# Altium schematic symbol library WCAP-ATG8.SchLib: 195 symbols (part 2 of 4)
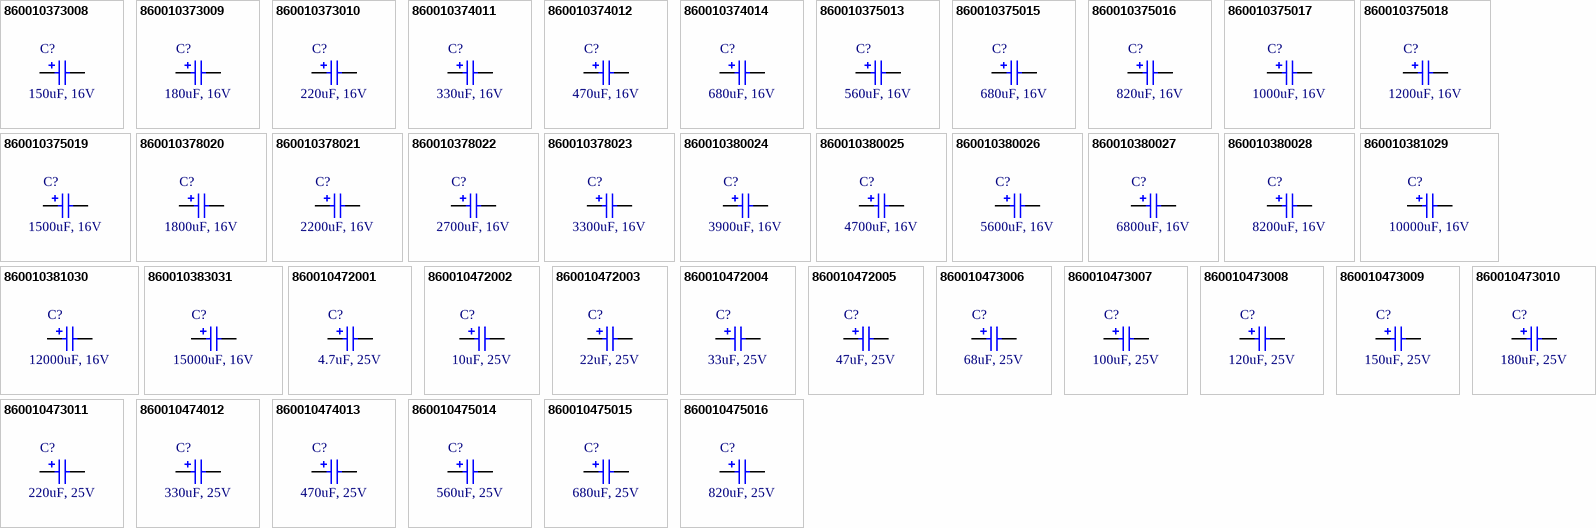
[diagram p5: symbols 860010373008 to 860010475016]

## 860010381029
designator C?, comment 10000uF, 16V
WCAP-ATG8 Aluminum Electrolytic Capacitor, Radial, THT, D18xH35.5, 10000uF, 16V; Manufacturer Part Number: 860010381029; Manufacturer: Wurth Elektronik; Ripple Current: 2970mA; Rated Voltage: 16VDC; Technical Reference: ATBL355103M016DSPAEB000; Leakage Current: 1600uA; Endurance: 2000h; Dissipation Factor: 16%; Capacitance Tolerance: +/-20%; ComponentLink2Description: Datasheet; Published Date: October 2020; Packaging: Ammo Pack; Operating Temperature: -40 to +85degC; Mounting Technology: THT; Height: 35.5mm; Diameter: 18mm; ComponentLink2URL: https://www.we-online.com/catalog/datasheet/860010381029.pdf; ComponentLink1URL: http://www.we-online.de; ComponentLink1Description: Manufacturer; Capacitance: 10000uF
footprint WCAP-ATG8_D18H35.5
pins: 1 P, 2 N

## 860010381030
designator C?, comment 12000uF, 16V
WCAP-ATG8 Aluminum Electrolytic Capacitor, Radial, THT, D18xH35.5, 12000uF, 16V; Manufacturer Part Number: 860010381030; Manufacturer: Wurth Elektronik; Ripple Current: 3058mA; Rated Voltage: 16VDC; Technical Reference: ATBL355123M016DSPAEB000; Leakage Current: 1920uA; Endurance: 2000h; Dissipation Factor: 16%; Capacitance Tolerance: +/-20%; ComponentLink2Description: Datasheet; Published Date: October 2020; Packaging: Ammo Pack; Operating Temperature: -40 to +85degC; Mounting Technology: THT; Height: 35.5mm; Diameter: 18mm; ComponentLink2URL: https://www.we-online.com/catalog/datasheet/860010381030.pdf; ComponentLink1URL: http://www.we-online.de; ComponentLink1Description: Manufacturer; Capacitance: 12000uF
footprint WCAP-ATG8_D18H35.5
pins: 1 P, 2 N

## 860010383031
designator C?, comment 15000uF, 16V
WCAP-ATG8 Aluminum Electrolytic Capacitor, Radial, THT, D22xH41, 15000uF, 16V; Manufacturer Part Number: 860010383031; Manufacturer: Wurth Elektronik; Ripple Current: 3905mA; Rated Voltage: 16VDC; Technical Reference: ATBN410153M016DSPS2B000; Leakage Current: 2400uA; Endurance: 2000h; Dissipation Factor: 16%; Capacitance Tolerance: +/-20%; ComponentLink2Description: Datasheet; Published Date: October 2020; Packaging: Ammo Pack; Operating Temperature: -40 to +85degC; Mounting Technology: THT; Height: 41mm; Diameter: 22mm; ComponentLink2URL: https://www.we-online.com/catalog/datasheet/860010383031.pdf; ComponentLink1URL: http://www.we-online.de; ComponentLink1Description: Manufacturer; Capacitance: 15000uF
footprint WCAP-ATG8_D22H41
pins: 1 P, 2 N

## 860010472001
designator C?, comment 4.7uF, 25V
WCAP-ATG8 Aluminum Electrolytic Capacitor, Radial, THT, D5xH11, 4.7uF, 25V; Manufacturer Part Number: 860010472001; Manufacturer: Wurth Elektronik; Ripple Current: 34mA; Rated Voltage: 25VDC; Technical Reference: ATBC1104R7M025DSPA3B000; Leakage Current: 3uA; Endurance: 2000h; Dissipation Factor: 14%; Capacitance Tolerance: +/-20%; ComponentLink2Description: Datasheet; Published Date: October 2020; Packaging: Ammo Pack; Operating Temperature: -40 to +85degC; Mounting Technology: THT; Height: 11mm; Diameter: 5mm; ComponentLink2URL: https://www.we-online.com/catalog/datasheet/860010472001.pdf; ComponentLink1URL: http://www.we-online.de; ComponentLink1Description: Manufacturer; Capacitance: 4.7uF
footprint WCAP-ATG8_D5H11
pins: 1 P, 2 N

## 860010472002
designator C?, comment 10uF, 25V
WCAP-ATG8 Aluminum Electrolytic Capacitor, Radial, THT, D5xH11, 10uF, 25V; Manufacturer Part Number: 860010472002; Manufacturer: Wurth Elektronik; Ripple Current: 50mA; Rated Voltage: 25VDC; Technical Reference: ATBC110100M025DSPA3B000; Leakage Current: 3uA; Endurance: 2000h; Dissipation Factor: 14%; Capacitance Tolerance: +/-20%; ComponentLink2Description: Datasheet; Published Date: October 2020; Packaging: Ammo Pack; Operating Temperature: -40 to +85degC; Mounting Technology: THT; Height: 11mm; Diameter: 5mm; ComponentLink2URL: https://www.we-online.com/catalog/datasheet/860010472002.pdf; ComponentLink1URL: http://www.we-online.de; ComponentLink1Description: Manufacturer; Capacitance: 10uF
footprint WCAP-ATG8_D5H11
pins: 1 P, 2 N

## 860010472003
designator C?, comment 22uF, 25V
WCAP-ATG8 Aluminum Electrolytic Capacitor, Radial, THT, D5xH11, 22uF, 25V; Manufacturer Part Number: 860010472003; Manufacturer: Wurth Elektronik; Ripple Current: 94mA; Rated Voltage: 25VDC; Technical Reference: ATBC110220M025DSPA3B000; Leakage Current: 5.5uA; Endurance: 2000h; Dissipation Factor: 14%; Capacitance Tolerance: +/-20%; ComponentLink2Description: Datasheet; Published Date: October 2020; Packaging: Ammo Pack; Operating Temperature: -40 to +85degC; Mounting Technology: THT; Height: 11mm; Diameter: 5mm; ComponentLink2URL: https://www.we-online.com/catalog/datasheet/860010472003.pdf; ComponentLink1URL: http://www.we-online.de; ComponentLink1Description: Manufacturer; Capacitance: 22uF
footprint WCAP-ATG8_D5H11
pins: 1 P, 2 N

## 860010472004
designator C?, comment 33uF, 25V
WCAP-ATG8 Aluminum Electrolytic Capacitor, Radial, THT, D5xH11, 33uF, 25V; Manufacturer Part Number: 860010472004; Manufacturer: Wurth Elektronik; Ripple Current: 105mA; Rated Voltage: 25VDC; Technical Reference: ATBC110330M025DSPA3B000; Leakage Current: 8.25uA; Endurance: 2000h; Dissipation Factor: 14%; Capacitance Tolerance: +/-20%; ComponentLink2Description: Datasheet; Published Date: October 2020; Packaging: Ammo Pack; Operating Temperature: -40 to +85degC; Mounting Technology: THT; Height: 11mm; Diameter: 5mm; ComponentLink2URL: https://www.we-online.com/catalog/datasheet/860010472004.pdf; ComponentLink1URL: http://www.we-online.de; ComponentLink1Description: Manufacturer; Capacitance: 33uF
footprint WCAP-ATG8_D5H11
pins: 1 P, 2 N

## 860010472005
designator C?, comment 47uF, 25V
WCAP-ATG8 Aluminum Electrolytic Capacitor, Radial, THT, D5xH11, 47uF, 25V; Manufacturer Part Number: 860010472005; Manufacturer: Wurth Elektronik; Ripple Current: 132mA; Rated Voltage: 25VDC; Technical Reference: ATBC110470M025DSPA3B000; Leakage Current: 11.75uA; Endurance: 2000h; Dissipation Factor: 14%; Capacitance Tolerance: +/-20%; ComponentLink2Description: Datasheet; Published Date: October 2020; Packaging: Ammo Pack; Operating Temperature: -40 to +85degC; Mounting Technology: THT; Height: 11mm; Diameter: 5mm; ComponentLink2URL: https://www.we-online.com/catalog/datasheet/860010472005.pdf; ComponentLink1URL: http://www.we-online.de; ComponentLink1Description: Manufacturer; Capacitance: 47uF
footprint WCAP-ATG8_D5H11
pins: 1 P, 2 N

## 860010473006
designator C?, comment 68uF, 25V
WCAP-ATG8 Aluminum Electrolytic Capacitor, Radial, THT, D6.3xH11, 68uF, 25V; Manufacturer Part Number: 860010473006; Manufacturer: Wurth Elektronik; Ripple Current: 176mA; Rated Voltage: 25VDC; Technical Reference: ATBD110680M025DSPA4B000; Leakage Current: 17uA; Endurance: 2000h; Dissipation Factor: 14%; Capacitance Tolerance: +/-20%; ComponentLink2Description: Datasheet; Published Date: October 2020; Packaging: Ammo Pack; Operating Temperature: -40 to +85degC; Mounting Technology: THT; Height: 11mm; Diameter: 6.3mm; ComponentLink2URL: https://www.we-online.com/catalog/datasheet/860010473006.pdf; ComponentLink1URL: http://www.we-online.de; ComponentLink1Description: Manufacturer; Capacitance: 68uF
footprint WCAP-ATG8_D6.3H11
pins: 1 P, 2 N

## 860010473007
designator C?, comment 100uF, 25V
WCAP-ATG8 Aluminum Electrolytic Capacitor, Radial, THT, D6.3xH11, 100uF, 25V; Manufacturer Part Number: 860010473007; Manufacturer: Wurth Elektronik; Ripple Current: 209mA; Rated Voltage: 25VDC; Technical Reference: ATBD110101M025DSPA4B000; Leakage Current: 25uA; Endurance: 2000h; Dissipation Factor: 14%; Capacitance Tolerance: +/-20%; ComponentLink2Description: Datasheet; Published Date: October 2020; Packaging: Ammo Pack; Operating Temperature: -40 to +85degC; Mounting Technology: THT; Height: 11mm; Diameter: 6.3mm; ComponentLink2URL: https://www.we-online.com/catalog/datasheet/860010473007.pdf; ComponentLink1URL: http://www.we-online.de; ComponentLink1Description: Manufacturer; Capacitance: 100uF
footprint WCAP-ATG8_D6.3H11
pins: 1 P, 2 N

## 860010473008
designator C?, comment 120uF, 25V
WCAP-ATG8 Aluminum Electrolytic Capacitor, Radial, THT, D6.3xH11, 120uF, 25V; Manufacturer Part Number: 860010473008; Manufacturer: Wurth Elektronik; Ripple Current: 253mA; Rated Voltage: 25VDC; Technical Reference: ATBD110121M025DSPA4B000; Leakage Current: 30uA; Endurance: 2000h; Dissipation Factor: 14%; Capacitance Tolerance: +/-20%; ComponentLink2Description: Datasheet; Published Date: October 2020; Packaging: Ammo Pack; Operating Temperature: -40 to +85degC; Mounting Technology: THT; Height: 11mm; Diameter: 6.3mm; ComponentLink2URL: https://www.we-online.com/catalog/datasheet/860010473008.pdf; ComponentLink1URL: http://www.we-online.de; ComponentLink1Description: Manufacturer; Capacitance: 120uF
footprint WCAP-ATG8_D6.3H11
pins: 1 P, 2 N

## 860010473009
designator C?, comment 150uF, 25V
WCAP-ATG8 Aluminum Electrolytic Capacitor, Radial, THT, D6.3xH11, 150uF, 25V; Manufacturer Part Number: 860010473009; Manufacturer: Wurth Elektronik; Ripple Current: 275mA; Rated Voltage: 25VDC; Technical Reference: ATBD110151M025DSPA4B000; Leakage Current: 37.5uA; Endurance: 2000h; Dissipation Factor: 14%; Capacitance Tolerance: +/-20%; ComponentLink2Description: Datasheet; Published Date: October 2020; Packaging: Ammo Pack; Operating Temperature: -40 to +85degC; Mounting Technology: THT; Height: 11mm; Diameter: 6.3mm; ComponentLink2URL: https://www.we-online.com/catalog/datasheet/860010473009.pdf; ComponentLink1URL: http://www.we-online.de; ComponentLink1Description: Manufacturer; Capacitance: 150uF
footprint WCAP-ATG8_D6.3H11
pins: 1 P, 2 N

## 860010473010
designator C?, comment 180uF, 25V
WCAP-ATG8 Aluminum Electrolytic Capacitor, Radial, THT, D6.3xH11, 180uF, 25V; Manufacturer Part Number: 860010473010; Manufacturer: Wurth Elektronik; Ripple Current: 280mA; Rated Voltage: 25VDC; Technical Reference: ATBD110181M025DSPA4B000; Leakage Current: 45uA; Endurance: 2000h; Dissipation Factor: 14%; Capacitance Tolerance: +/-20%; ComponentLink2Description: Datasheet; Published Date: October 2020; Packaging: Ammo Pack; Operating Temperature: -40 to +85degC; Mounting Technology: THT; Height: 11mm; Diameter: 6.3mm; ComponentLink2URL: https://www.we-online.com/catalog/datasheet/860010473010.pdf; ComponentLink1URL: http://www.we-online.de; ComponentLink1Description: Manufacturer; Capacitance: 180uF
footprint WCAP-ATG8_D6.3H11
pins: 1 P, 2 N

## 860010473011
designator C?, comment 220uF, 25V
WCAP-ATG8 Aluminum Electrolytic Capacitor, Radial, THT, D6.3xH11, 220uF, 25V; Manufacturer Part Number: 860010473011; Manufacturer: Wurth Elektronik; Ripple Current: 310mA; Rated Voltage: 25VDC; Technical Reference: ATBD110221M025DSPA4B000; Leakage Current: 55uA; Endurance: 2000h; Dissipation Factor: 14%; Capacitance Tolerance: +/-20%; ComponentLink2Description: Datasheet; Published Date: October 2020; Packaging: Ammo Pack; Operating Temperature: -40 to +85degC; Mounting Technology: THT; Height: 11mm; Diameter: 6.3mm; ComponentLink2URL: https://www.we-online.com/catalog/datasheet/860010473011.pdf; ComponentLink1URL: http://www.we-online.de; ComponentLink1Description: Manufacturer; Capacitance: 220uF
footprint WCAP-ATG8_D6.3H11
pins: 1 P, 2 N

## 860010474012
designator C?, comment 330uF, 25V
WCAP-ATG8 Aluminum Electrolytic Capacitor, Radial, THT, D8xH11.5, 330uF, 25V; Manufacturer Part Number: 860010474012; Manufacturer: Wurth Elektronik; Ripple Current: 451mA; Rated Voltage: 25VDC; Technical Reference: ATBE115331M025DSPA7B000; Leakage Current: 82.5uA; Endurance: 2000h; Dissipation Factor: 14%; Capacitance Tolerance: +/-20%; ComponentLink2Description: Datasheet; Published Date: October 2020; Packaging: Ammo Pack; Operating Temperature: -40 to +85degC; Mounting Technology: THT; Height: 11.5mm; Diameter: 8mm; ComponentLink2URL: https://www.we-online.com/catalog/datasheet/860010474012.pdf; ComponentLink1URL: http://www.we-online.de; ComponentLink1Description: Manufacturer; Capacitance: 330uF
footprint WCAP-ATG8_D8H11.5
pins: 1 P, 2 N

## 860010474013
designator C?, comment 470uF, 25V
WCAP-ATG8 Aluminum Electrolytic Capacitor, Radial, THT, D8xH11.5, 470uF, 25V; Manufacturer Part Number: 860010474013; Manufacturer: Wurth Elektronik; Ripple Current: 561mA; Rated Voltage: 25VDC; Technical Reference: ATBE115471M025DSPA7B000; Leakage Current: 117.5uA; Endurance: 2000h; Dissipation Factor: 14%; Capacitance Tolerance: +/-20%; ComponentLink2Description: Datasheet; Published Date: October 2020; Packaging: Ammo Pack; Operating Temperature: -40 to +85degC; Mounting Technology: THT; Height: 11.5mm; Diameter: 8mm; ComponentLink2URL: https://www.we-online.com/catalog/datasheet/860010474013.pdf; ComponentLink1URL: http://www.we-online.de; ComponentLink1Description: Manufacturer; Capacitance: 470uF
footprint WCAP-ATG8_D8H11.5
pins: 1 P, 2 N

## 860010475014
designator C?, comment 560uF, 25V
WCAP-ATG8 Aluminum Electrolytic Capacitor, Radial, THT, D10xH16, 560uF, 25V; Manufacturer Part Number: 860010475014; Manufacturer: Wurth Elektronik; Ripple Current: 693mA; Rated Voltage: 25VDC; Technical Reference: ATBF160561M025DSPAAB000; Leakage Current: 140uA; Endurance: 2000h; Dissipation Factor: 14%; Capacitance Tolerance: +/-20%; ComponentLink2Description: Datasheet; Published Date: October 2020; Packaging: Ammo Pack; Operating Temperature: -40 to +85degC; Mounting Technology: THT; Height: 16mm; Diameter: 10mm; ComponentLink2URL: https://www.we-online.com/catalog/datasheet/860010475014.pdf; ComponentLink1URL: http://www.we-online.de; ComponentLink1Description: Manufacturer; Capacitance: 560uF
footprint WCAP-ATG8_D10H16
pins: 1 P, 2 N

## 860010475015
designator C?, comment 680uF, 25V
WCAP-ATG8 Aluminum Electrolytic Capacitor, Radial, THT, D10xH16, 680uF, 25V; Manufacturer Part Number: 860010475015; Manufacturer: Wurth Elektronik; Ripple Current: 792mA; Rated Voltage: 25VDC; Technical Reference: ATBF160681M025DSPAAB000; Leakage Current: 170uA; Endurance: 2000h; Dissipation Factor: 14%; Capacitance Tolerance: +/-20%; ComponentLink2Description: Datasheet; Published Date: October 2020; Packaging: Ammo Pack; Operating Temperature: -40 to +85degC; Mounting Technology: THT; Height: 16mm; Diameter: 10mm; ComponentLink2URL: https://www.we-online.com/catalog/datasheet/860010475015.pdf; ComponentLink1URL: http://www.we-online.de; ComponentLink1Description: Manufacturer; Capacitance: 680uF
footprint WCAP-ATG8_D10H16
pins: 1 P, 2 N

## 860010475016
designator C?, comment 820uF, 25V
WCAP-ATG8 Aluminum Electrolytic Capacitor, Radial, THT, D10xH20, 820uF, 25V; Manufacturer Part Number: 860010475016; Manufacturer: Wurth Elektronik; Ripple Current: 891mA; Rated Voltage: 25VDC; Technical Reference: ATBF200821M025DSPAAB000; Leakage Current: 205uA; Endurance: 2000h; Dissipation Factor: 14%; Capacitance Tolerance: +/-20%; ComponentLink2Description: Datasheet; Published Date: October 2020; Packaging: Ammo Pack; Operating Temperature: -40 to +85degC; Mounting Technology: THT; Height: 20mm; Diameter: 10mm; ComponentLink2URL: https://www.we-online.com/catalog/datasheet/860010475016.pdf; ComponentLink1URL: http://www.we-online.de; ComponentLink1Description: Manufacturer; Capacitance: 820uF
footprint WCAP-ATG8_D10H20
pins: 1 P, 2 N

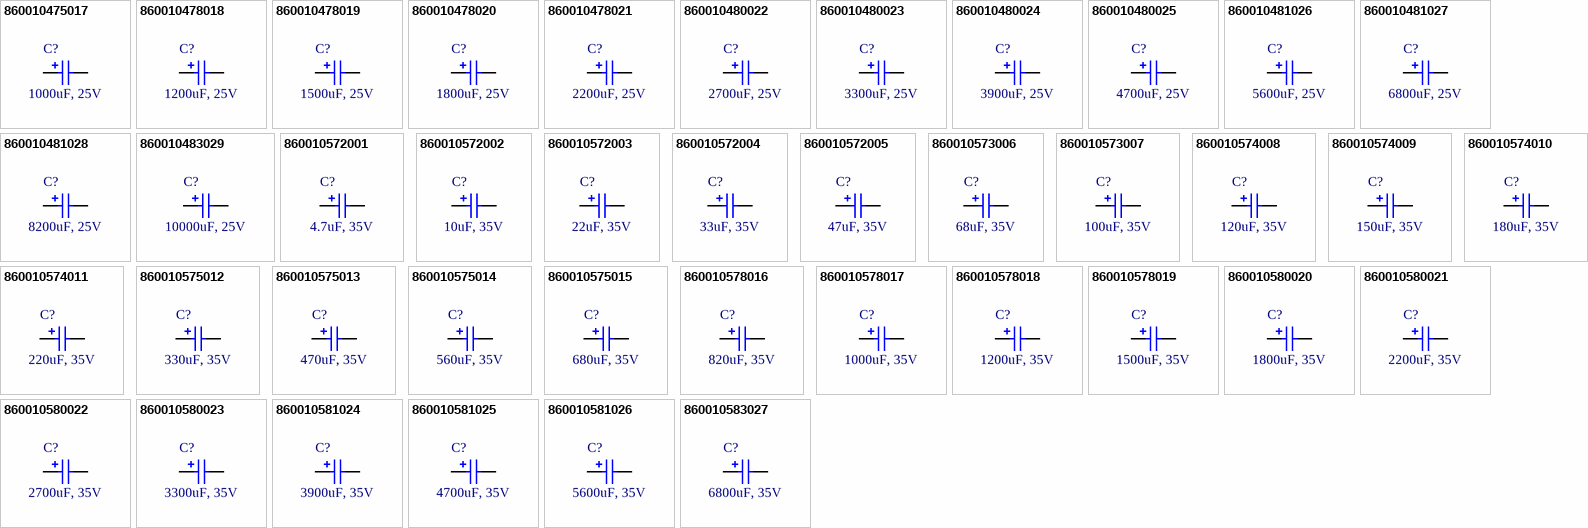
[diagram p2: symbols 860010475017 to 860010583027]

## 860010475017
designator C?, comment 1000uF, 25V
WCAP-ATG8 Aluminum Electrolytic Capacitor, Radial, THT, D10xH20, 1000uF, 25V; Manufacturer Part Number: 860010475017; Manufacturer: Wurth Elektronik; Ripple Current: 1050mA; Rated Voltage: 25VDC; Technical Reference: ATBF200102M025DSPAAB000; Leakage Current: 250uA; Endurance: 2000h; Dissipation Factor: 14%; Capacitance Tolerance: +/-20%; ComponentLink2Description: Datasheet; Published Date: October 2020; Packaging: Ammo Pack; Operating Temperature: -40 to +85degC; Mounting Technology: THT; Height: 20mm; Diameter: 10mm; ComponentLink2URL: https://www.we-online.com/catalog/datasheet/860010475017.pdf; ComponentLink1URL: http://www.we-online.de; ComponentLink1Description: Manufacturer; Capacitance: 1000uF
footprint WCAP-ATG8_D10H20
pins: 1 P, 2 N

## 860010478018
designator C?, comment 1200uF, 25V
WCAP-ATG8 Aluminum Electrolytic Capacitor, Radial, THT, D13xH20, 1200uF, 25V; Manufacturer Part Number: 860010478018; Manufacturer: Wurth Elektronik; Ripple Current: 1155mA; Rated Voltage: 25VDC; Technical Reference: ATBI200122M025DSPACB000; Leakage Current: 300uA; Endurance: 2000h; Dissipation Factor: 14%; Capacitance Tolerance: +/-20%; ComponentLink2Description: Datasheet; Published Date: October 2020; Packaging: Ammo Pack; Operating Temperature: -40 to +85degC; Mounting Technology: THT; Height: 20mm; Diameter: 13mm; ComponentLink2URL: https://www.we-online.com/catalog/datasheet/860010478018.pdf; ComponentLink1URL: http://www.we-online.de; ComponentLink1Description: Manufacturer; Capacitance: 1200uF
footprint WCAP-ATG8_D13H20
pins: 1 P, 2 N

## 860010478019
designator C?, comment 1500uF, 25V
WCAP-ATG8 Aluminum Electrolytic Capacitor, Radial, THT, D13xH20, 1500uF, 25V; Manufacturer Part Number: 860010478019; Manufacturer: Wurth Elektronik; Ripple Current: 1353mA; Rated Voltage: 25VDC; Technical Reference: ATBI200152M025DSPACB000; Leakage Current: 375uA; Endurance: 2000h; Dissipation Factor: 14%; Capacitance Tolerance: +/-20%; ComponentLink2Description: Datasheet; Published Date: October 2020; Packaging: Ammo Pack; Operating Temperature: -40 to +85degC; Mounting Technology: THT; Height: 20mm; Diameter: 13mm; ComponentLink2URL: https://www.we-online.com/catalog/datasheet/860010478019.pdf; ComponentLink1URL: http://www.we-online.de; ComponentLink1Description: Manufacturer; Capacitance: 1500uF
footprint WCAP-ATG8_D13H20
pins: 1 P, 2 N

## 860010478020
designator C?, comment 1800uF, 25V
WCAP-ATG8 Aluminum Electrolytic Capacitor, Radial, THT, D13xH20, 1800uF, 25V; Manufacturer Part Number: 860010478020; Manufacturer: Wurth Elektronik; Ripple Current: 1496mA; Rated Voltage: 25VDC; Technical Reference: ATBI200182M025DSPACB000; Leakage Current: 450uA; Endurance: 2000h; Dissipation Factor: 14%; Capacitance Tolerance: +/-20%; ComponentLink2Description: Datasheet; Published Date: October 2020; Packaging: Ammo Pack; Operating Temperature: -40 to +85degC; Mounting Technology: THT; Height: 20mm; Diameter: 13mm; ComponentLink2URL: https://www.we-online.com/catalog/datasheet/860010478020.pdf; ComponentLink1URL: http://www.we-online.de; ComponentLink1Description: Manufacturer; Capacitance: 1800uF
footprint WCAP-ATG8_D13H20
pins: 1 P, 2 N

## 860010478021
designator C?, comment 2200uF, 25V
WCAP-ATG8 Aluminum Electrolytic Capacitor, Radial, THT, D13xH25, 2200uF, 25V; Manufacturer Part Number: 860010478021; Manufacturer: Wurth Elektronik; Ripple Current: 1705mA; Rated Voltage: 25VDC; Technical Reference: ATBI250222M025DSPACB000; Leakage Current: 550uA; Endurance: 2000h; Dissipation Factor: 14%; Capacitance Tolerance: +/-20%; ComponentLink2Description: Datasheet; Published Date: October 2020; Packaging: Ammo Pack; Operating Temperature: -40 to +85degC; Mounting Technology: THT; Height: 25mm; Diameter: 13mm; ComponentLink2URL: https://www.we-online.com/catalog/datasheet/860010478021.pdf; ComponentLink1URL: http://www.we-online.de; ComponentLink1Description: Manufacturer; Capacitance: 2200uF
footprint WCAP-ATG8_D13H25
pins: 1 P, 2 N

## 860010480022
designator C?, comment 2700uF, 25V
WCAP-ATG8 Aluminum Electrolytic Capacitor, Radial, THT, D16xH25, 2700uF, 25V; Manufacturer Part Number: 860010480022; Manufacturer: Wurth Elektronik; Ripple Current: 1804mA; Rated Voltage: 25VDC; Technical Reference: ATBK250272M025DSPAEB000; Leakage Current: 675uA; Endurance: 2000h; Dissipation Factor: 14%; Capacitance Tolerance: +/-20%; ComponentLink2Description: Datasheet; Published Date: October 2020; Packaging: Ammo Pack; Operating Temperature: -40 to +85degC; Mounting Technology: THT; Height: 25mm; Diameter: 16mm; ComponentLink2URL: https://www.we-online.com/catalog/datasheet/860010480022.pdf; ComponentLink1URL: http://www.we-online.de; ComponentLink1Description: Manufacturer; Capacitance: 2700uF
footprint WCAP-ATG8_D16H25
pins: 1 P, 2 N

## 860010480023
designator C?, comment 3300uF, 25V
WCAP-ATG8 Aluminum Electrolytic Capacitor, Radial, THT, D16xH25, 3300uF, 25V; Manufacturer Part Number: 860010480023; Manufacturer: Wurth Elektronik; Ripple Current: 1870mA; Rated Voltage: 25VDC; Technical Reference: ATBK250332M025DSPAEB000; Leakage Current: 825uA; Endurance: 2000h; Dissipation Factor: 14%; Capacitance Tolerance: +/-20%; ComponentLink2Description: Datasheet; Published Date: October 2020; Packaging: Ammo Pack; Operating Temperature: -40 to +85degC; Mounting Technology: THT; Height: 25mm; Diameter: 16mm; ComponentLink2URL: https://www.we-online.com/catalog/datasheet/860010480023.pdf; ComponentLink1URL: http://www.we-online.de; ComponentLink1Description: Manufacturer; Capacitance: 3300uF
footprint WCAP-ATG8_D16H25
pins: 1 P, 2 N

## 860010480024
designator C?, comment 3900uF, 25V
WCAP-ATG8 Aluminum Electrolytic Capacitor, Radial, THT, D16xH31.5, 3900uF, 25V; Manufacturer Part Number: 860010480024; Manufacturer: Wurth Elektronik; Ripple Current: 2343mA; Rated Voltage: 25VDC; Technical Reference: ATBK315392M025DSPADB000; Leakage Current: 975uA; Endurance: 2000h; Dissipation Factor: 14%; Capacitance Tolerance: +/-20%; ComponentLink2Description: Datasheet; Published Date: October 2020; Packaging: Ammo Pack; Operating Temperature: -40 to +85degC; Mounting Technology: THT; Height: 31.5mm; Diameter: 16mm; ComponentLink2URL: https://www.we-online.com/catalog/datasheet/860010480024.pdf; ComponentLink1URL: http://www.we-online.de; ComponentLink1Description: Manufacturer; Capacitance: 3900uF
footprint WCAP-ATG8_D16H31.5
pins: 1 P, 2 N

## 860010480025
designator C?, comment 4700uF, 25V
WCAP-ATG8 Aluminum Electrolytic Capacitor, Radial, THT, D16xH31.5, 4700uF, 25V; Manufacturer Part Number: 860010480025; Manufacturer: Wurth Elektronik; Ripple Current: 2640mA; Rated Voltage: 25VDC; Technical Reference: ATBK315472M025DSPADB000; Leakage Current: 1175uA; Endurance: 2000h; Dissipation Factor: 14%; Capacitance Tolerance: +/-20%; ComponentLink2Description: Datasheet; Published Date: October 2020; Packaging: Ammo Pack; Operating Temperature: -40 to +85degC; Mounting Technology: THT; Height: 31.5mm; Diameter: 16mm; ComponentLink2URL: https://www.we-online.com/catalog/datasheet/860010480025.pdf; ComponentLink1URL: http://www.we-online.de; ComponentLink1Description: Manufacturer; Capacitance: 4700uF
footprint WCAP-ATG8_D16H31.5
pins: 1 P, 2 N

## 860010481026
designator C?, comment 5600uF, 25V
WCAP-ATG8 Aluminum Electrolytic Capacitor, Radial, THT, D18xH31.5, 5600uF, 25V; Manufacturer Part Number: 860010481026; Manufacturer: Wurth Elektronik; Ripple Current: 2816mA; Rated Voltage: 25VDC; Technical Reference: ATBL315562M025DSPAEB000; Leakage Current: 1400uA; Endurance: 2000h; Dissipation Factor: 14%; Capacitance Tolerance: +/-20%; ComponentLink2Description: Datasheet; Published Date: October 2020; Packaging: Ammo Pack; Operating Temperature: -40 to +85degC; Mounting Technology: THT; Height: 31.5mm; Diameter: 18mm; ComponentLink2URL: https://www.we-online.com/catalog/datasheet/860010481026.pdf; ComponentLink1URL: http://www.we-online.de; ComponentLink1Description: Manufacturer; Capacitance: 5600uF
footprint WCAP-ATG8_D18H31.5
pins: 1 P, 2 N

## 860010481027
designator C?, comment 6800uF, 25V
WCAP-ATG8 Aluminum Electrolytic Capacitor, Radial, THT, D18xH35.5, 6800uF, 25V; Manufacturer Part Number: 860010481027; Manufacturer: Wurth Elektronik; Ripple Current: 2970mA; Rated Voltage: 25VDC; Technical Reference: ATBL355682M025DSPAEB000; Leakage Current: 1700uA; Endurance: 2000h; Dissipation Factor: 14%; Capacitance Tolerance: +/-20%; ComponentLink2Description: Datasheet; Published Date: October 2020; Packaging: Ammo Pack; Operating Temperature: -40 to +85degC; Mounting Technology: THT; Height: 35.5mm; Diameter: 18mm; ComponentLink2URL: https://www.we-online.com/catalog/datasheet/860010481027.pdf; ComponentLink1URL: http://www.we-online.de; ComponentLink1Description: Manufacturer; Capacitance: 6800uF
footprint WCAP-ATG8_D18H35.5
pins: 1 P, 2 N

## 860010481028
designator C?, comment 8200uF, 25V
WCAP-ATG8 Aluminum Electrolytic Capacitor, Radial, THT, D18xH35.5, 8200uF, 25V; Manufacturer Part Number: 860010481028; Manufacturer: Wurth Elektronik; Ripple Current: 2981mA; Rated Voltage: 25VDC; Technical Reference: ATBL355822M025DSPAEB000; Leakage Current: 2050uA; Endurance: 2000h; Dissipation Factor: 14%; Capacitance Tolerance: +/-20%; ComponentLink2Description: Datasheet; Published Date: October 2020; Packaging: Ammo Pack; Operating Temperature: -40 to +85degC; Mounting Technology: THT; Height: 35.5mm; Diameter: 18mm; ComponentLink2URL: https://www.we-online.com/catalog/datasheet/860010481028.pdf; ComponentLink1URL: http://www.we-online.de; ComponentLink1Description: Manufacturer; Capacitance: 8200uF
footprint WCAP-ATG8_D18H35.5
pins: 1 P, 2 N

## 860010483029
designator C?, comment 10000uF, 25V
WCAP-ATG8 Aluminum Electrolytic Capacitor, Radial, THT, D22xH41, 10000uF, 25V; Manufacturer Part Number: 860010483029; Manufacturer: Wurth Elektronik; Ripple Current: 3960mA; Rated Voltage: 25VDC; Technical Reference: ATBN410103M025DSPS2B000; Leakage Current: 2500uA; Endurance: 2000h; Dissipation Factor: 14%; Capacitance Tolerance: +/-20%; ComponentLink2Description: Datasheet; Published Date: October 2020; Packaging: Ammo Pack; Operating Temperature: -40 to +85degC; Mounting Technology: THT; Height: 41mm; Diameter: 22mm; ComponentLink2URL: https://www.we-online.com/catalog/datasheet/860010483029.pdf; ComponentLink1URL: http://www.we-online.de; ComponentLink1Description: Manufacturer; Capacitance: 10000uF
footprint WCAP-ATG8_D22H41
pins: 1 P, 2 N

## 860010572001
designator C?, comment 4.7uF, 35V
WCAP-ATG8 Aluminum Electrolytic Capacitor, Radial, THT, D5xH11, 4.7uF, 35V; Manufacturer Part Number: 860010572001; Manufacturer: Wurth Elektronik; Ripple Current: 44mA; Rated Voltage: 35VDC; Technical Reference: ATBC1104R7M035DSPA3B000; Leakage Current: 3uA; Endurance: 2000h; Dissipation Factor: 12%; Capacitance Tolerance: +/-20%; ComponentLink2Description: Datasheet; Published Date: October 2020; Packaging: Ammo Pack; Operating Temperature: -40 to +85degC; Mounting Technology: THT; Height: 11mm; Diameter: 5mm; ComponentLink2URL: https://www.we-online.com/catalog/datasheet/860010572001.pdf; ComponentLink1URL: http://www.we-online.de; ComponentLink1Description: Manufacturer; Capacitance: 4.7uF
footprint WCAP-ATG8_D5H11
pins: 1 P, 2 N

## 860010572002
designator C?, comment 10uF, 35V
WCAP-ATG8 Aluminum Electrolytic Capacitor, Radial, THT, D5xH11, 10uF, 35V; Manufacturer Part Number: 860010572002; Manufacturer: Wurth Elektronik; Ripple Current: 66mA; Rated Voltage: 35VDC; Technical Reference: ATBC110100M035DSPA3B000; Leakage Current: 3.5uA; Endurance: 2000h; Dissipation Factor: 12%; Capacitance Tolerance: +/-20%; ComponentLink2Description: Datasheet; Published Date: October 2020; Packaging: Ammo Pack; Operating Temperature: -40 to +85degC; Mounting Technology: THT; Height: 11mm; Diameter: 5mm; ComponentLink2URL: https://www.we-online.com/catalog/datasheet/860010572002.pdf; ComponentLink1URL: http://www.we-online.de; ComponentLink1Description: Manufacturer; Capacitance: 10uF
footprint WCAP-ATG8_D5H11
pins: 1 P, 2 N

## 860010572003
designator C?, comment 22uF, 35V
WCAP-ATG8 Aluminum Electrolytic Capacitor, Radial, THT, D5xH11, 22uF, 35V; Manufacturer Part Number: 860010572003; Manufacturer: Wurth Elektronik; Ripple Current: 108mA; Rated Voltage: 35VDC; Technical Reference: ATBC110220M035DSPA3B000; Leakage Current: 7.7uA; Endurance: 2000h; Dissipation Factor: 12%; Capacitance Tolerance: +/-20%; ComponentLink2Description: Datasheet; Published Date: October 2020; Packaging: Ammo Pack; Operating Temperature: -40 to +85degC; Mounting Technology: THT; Height: 11mm; Diameter: 5mm; ComponentLink2URL: https://www.we-online.com/catalog/datasheet/860010572003.pdf; ComponentLink1URL: http://www.we-online.de; ComponentLink1Description: Manufacturer; Capacitance: 22uF
footprint WCAP-ATG8_D5H11
pins: 1 P, 2 N

## 860010572004
designator C?, comment 33uF, 35V
WCAP-ATG8 Aluminum Electrolytic Capacitor, Radial, THT, D5xH11, 33uF, 35V; Manufacturer Part Number: 860010572004; Manufacturer: Wurth Elektronik; Ripple Current: 121mA; Rated Voltage: 35VDC; Technical Reference: ATBC110330M035DSPA3B000; Leakage Current: 11.55uA; Endurance: 2000h; Dissipation Factor: 12%; Capacitance Tolerance: +/-20%; ComponentLink2Description: Datasheet; Published Date: October 2020; Packaging: Ammo Pack; Operating Temperature: -40 to +85degC; Mounting Technology: THT; Height: 11mm; Diameter: 5mm; ComponentLink2URL: https://www.we-online.com/catalog/datasheet/860010572004.pdf; ComponentLink1URL: http://www.we-online.de; ComponentLink1Description: Manufacturer; Capacitance: 33uF
footprint WCAP-ATG8_D5H11
pins: 1 P, 2 N

## 860010572005
designator C?, comment 47uF, 35V
WCAP-ATG8 Aluminum Electrolytic Capacitor, Radial, THT, D5xH11, 47uF, 35V; Manufacturer Part Number: 860010572005; Manufacturer: Wurth Elektronik; Ripple Current: 143mA; Rated Voltage: 35VDC; Technical Reference: ATBC110470M035DSPA3B000; Leakage Current: 16.45uA; Endurance: 2000h; Dissipation Factor: 12%; Capacitance Tolerance: +/-20%; ComponentLink2Description: Datasheet; Published Date: October 2020; Packaging: Ammo Pack; Operating Temperature: -40 to +85degC; Mounting Technology: THT; Height: 11mm; Diameter: 5mm; ComponentLink2URL: https://www.we-online.com/catalog/datasheet/860010572005.pdf; ComponentLink1URL: http://www.we-online.de; ComponentLink1Description: Manufacturer; Capacitance: 47uF
footprint WCAP-ATG8_D5H11
pins: 1 P, 2 N

## 860010573006
designator C?, comment 68uF, 35V
WCAP-ATG8 Aluminum Electrolytic Capacitor, Radial, THT, D6.3xH11, 68uF, 35V; Manufacturer Part Number: 860010573006; Manufacturer: Wurth Elektronik; Ripple Current: 198mA; Rated Voltage: 35VDC; Technical Reference: ATBD110680M035DSPA4B000; Leakage Current: 23.8uA; Endurance: 2000h; Dissipation Factor: 12%; Capacitance Tolerance: +/-20%; ComponentLink2Description: Datasheet; Published Date: October 2020; Packaging: Ammo Pack; Operating Temperature: -40 to +85degC; Mounting Technology: THT; Height: 11mm; Diameter: 6.3mm; ComponentLink2URL: https://www.we-online.com/catalog/datasheet/860010573006.pdf; ComponentLink1URL: http://www.we-online.de; ComponentLink1Description: Manufacturer; Capacitance: 68uF
footprint WCAP-ATG8_D6.3H11
pins: 1 P, 2 N

## 860010573007
designator C?, comment 100uF, 35V
WCAP-ATG8 Aluminum Electrolytic Capacitor, Radial, THT, D6.3xH11, 100uF, 35V; Manufacturer Part Number: 860010573007; Manufacturer: Wurth Elektronik; Ripple Current: 231mA; Rated Voltage: 35VDC; Technical Reference: ATBD110101M035DSPA4B000; Leakage Current: 35uA; Endurance: 2000h; Dissipation Factor: 12%; Capacitance Tolerance: +/-20%; ComponentLink2Description: Datasheet; Published Date: October 2020; Packaging: Ammo Pack; Operating Temperature: -40 to +85degC; Mounting Technology: THT; Height: 11mm; Diameter: 6.3mm; ComponentLink2URL: https://www.we-online.com/catalog/datasheet/860010573007.pdf; ComponentLink1URL: http://www.we-online.de; ComponentLink1Description: Manufacturer; Capacitance: 100uF
footprint WCAP-ATG8_D6.3H11
pins: 1 P, 2 N

## 860010574008
designator C?, comment 120uF, 35V
WCAP-ATG8 Aluminum Electrolytic Capacitor, Radial, THT, D8xH11.5, 120uF, 35V; Manufacturer Part Number: 860010574008; Manufacturer: Wurth Elektronik; Ripple Current: 275mA; Rated Voltage: 35VDC; Technical Reference: ATBE115121M035DSPA7B000; Leakage Current: 42uA; Endurance: 2000h; Dissipation Factor: 12%; Capacitance Tolerance: +/-20%; ComponentLink2Description: Datasheet; Published Date: October 2020; Packaging: Ammo Pack; Operating Temperature: -40 to +85degC; Mounting Technology: THT; Height: 11.5mm; Diameter: 8mm; ComponentLink2URL: https://www.we-online.com/catalog/datasheet/860010574008.pdf; ComponentLink1URL: http://www.we-online.de; ComponentLink1Description: Manufacturer; Capacitance: 120uF
footprint WCAP-ATG8_D8H11.5
pins: 1 P, 2 N

## 860010574009
designator C?, comment 150uF, 35V
WCAP-ATG8 Aluminum Electrolytic Capacitor, Radial, THT, D8xH11.5, 150uF, 35V; Manufacturer Part Number: 860010574009; Manufacturer: Wurth Elektronik; Ripple Current: 308mA; Rated Voltage: 35VDC; Technical Reference: ATBE115151M035DSPA7B000; Leakage Current: 52.5uA; Endurance: 2000h; Dissipation Factor: 12%; Capacitance Tolerance: +/-20%; ComponentLink2Description: Datasheet; Published Date: October 2020; Packaging: Ammo Pack; Operating Temperature: -40 to +85degC; Mounting Technology: THT; Height: 11.5mm; Diameter: 8mm; ComponentLink2URL: https://www.we-online.com/catalog/datasheet/860010574009.pdf; ComponentLink1URL: http://www.we-online.de; ComponentLink1Description: Manufacturer; Capacitance: 150uF
footprint WCAP-ATG8_D8H11.5
pins: 1 P, 2 N

## 860010574010
designator C?, comment 180uF, 35V
WCAP-ATG8 Aluminum Electrolytic Capacitor, Radial, THT, D8xH11.5, 180uF, 35V; Manufacturer Part Number: 860010574010; Manufacturer: Wurth Elektronik; Ripple Current: 352mA; Rated Voltage: 35VDC; Technical Reference: ATBE115181M035DSPA7B000; Leakage Current: 63uA; Endurance: 2000h; Dissipation Factor: 12%; Capacitance Tolerance: +/-20%; ComponentLink2Description: Datasheet; Published Date: October 2020; Packaging: Ammo Pack; Operating Temperature: -40 to +85degC; Mounting Technology: THT; Height: 11.5mm; Diameter: 8mm; ComponentLink2URL: https://www.we-online.com/catalog/datasheet/860010574010.pdf; ComponentLink1URL: http://www.we-online.de; ComponentLink1Description: Manufacturer; Capacitance: 180uF
footprint WCAP-ATG8_D8H11.5
pins: 1 P, 2 N

## 860010574011
designator C?, comment 220uF, 35V
WCAP-ATG8 Aluminum Electrolytic Capacitor, Radial, THT, D8xH11.5, 220uF, 35V; Manufacturer Part Number: 860010574011; Manufacturer: Wurth Elektronik; Ripple Current: 385mA; Rated Voltage: 35VDC; Technical Reference: ATBE115221M035DSPA7B000; Leakage Current: 77uA; Endurance: 2000h; Dissipation Factor: 12%; Capacitance Tolerance: +/-20%; ComponentLink2Description: Datasheet; Published Date: October 2020; Packaging: Ammo Pack; Operating Temperature: -40 to +85degC; Mounting Technology: THT; Height: 11.5mm; Diameter: 8mm; ComponentLink2URL: https://www.we-online.com/catalog/datasheet/860010574011.pdf; ComponentLink1URL: http://www.we-online.de; ComponentLink1Description: Manufacturer; Capacitance: 220uF
footprint WCAP-ATG8_D8H11.5
pins: 1 P, 2 N

## 860010575012
designator C?, comment 330uF, 35V
WCAP-ATG8 Aluminum Electrolytic Capacitor, Radial, THT, D10xH12.5, 330uF, 35V; Manufacturer Part Number: 860010575012; Manufacturer: Wurth Elektronik; Ripple Current: 528mA; Rated Voltage: 35VDC; Technical Reference: ATBF125331M035DSPA9B000; Leakage Current: 115.5uA; Endurance: 2000h; Dissipation Factor: 12%; Capacitance Tolerance: +/-20%; ComponentLink2Description: Datasheet; Published Date: October 2020; Packaging: Ammo Pack; Operating Temperature: -40 to +85degC; Mounting Technology: THT; Height: 12.5mm; Diameter: 10mm; ComponentLink2URL: https://www.we-online.com/catalog/datasheet/860010575012.pdf; ComponentLink1URL: http://www.we-online.de; ComponentLink1Description: Manufacturer; Capacitance: 330uF
footprint WCAP-ATG8_D10H12.5
pins: 1 P, 2 N

## 860010575013
designator C?, comment 470uF, 35V
WCAP-ATG8 Aluminum Electrolytic Capacitor, Radial, THT, D10xH16, 470uF, 35V; Manufacturer Part Number: 860010575013; Manufacturer: Wurth Elektronik; Ripple Current: 693mA; Rated Voltage: 35VDC; Technical Reference: ATBF160471M035DSPAAB000; Leakage Current: 164.5uA; Endurance: 2000h; Dissipation Factor: 12%; Capacitance Tolerance: +/-20%; ComponentLink2Description: Datasheet; Published Date: October 2020; Packaging: Ammo Pack; Operating Temperature: -40 to +85degC; Mounting Technology: THT; Height: 16mm; Diameter: 10mm; ComponentLink2URL: https://www.we-online.com/catalog/datasheet/860010575013.pdf; ComponentLink1URL: http://www.we-online.de; ComponentLink1Description: Manufacturer; Capacitance: 470uF
footprint WCAP-ATG8_D10H16
pins: 1 P, 2 N

## 860010575014
designator C?, comment 560uF, 35V
WCAP-ATG8 Aluminum Electrolytic Capacitor, Radial, THT, D10xH20, 560uF, 35V; Manufacturer Part Number: 860010575014; Manufacturer: Wurth Elektronik; Ripple Current: 847mA; Rated Voltage: 35VDC; Technical Reference: ATBF200561M035DSPAAB000; Leakage Current: 196uA; Endurance: 2000h; Dissipation Factor: 12%; Capacitance Tolerance: +/-20%; ComponentLink2Description: Datasheet; Published Date: October 2020; Packaging: Ammo Pack; Operating Temperature: -40 to +85degC; Mounting Technology: THT; Height: 20mm; Diameter: 10mm; ComponentLink2URL: https://www.we-online.com/catalog/datasheet/860010575014.pdf; ComponentLink1URL: http://www.we-online.de; ComponentLink1Description: Manufacturer; Capacitance: 560uF
footprint WCAP-ATG8_D10H20
pins: 1 P, 2 N

## 860010575015
designator C?, comment 680uF, 35V
WCAP-ATG8 Aluminum Electrolytic Capacitor, Radial, THT, D10xH20, 680uF, 35V; Manufacturer Part Number: 860010575015; Manufacturer: Wurth Elektronik; Ripple Current: 891mA; Rated Voltage: 35VDC; Technical Reference: ATBF200681M035DSPAAB000; Leakage Current: 238uA; Endurance: 2000h; Dissipation Factor: 12%; Capacitance Tolerance: +/-20%; ComponentLink2Description: Datasheet; Published Date: October 2020; Packaging: Ammo Pack; Operating Temperature: -40 to +85degC; Mounting Technology: THT; Height: 20mm; Diameter: 10mm; ComponentLink2URL: https://www.we-online.com/catalog/datasheet/860010575015.pdf; ComponentLink1URL: http://www.we-online.de; ComponentLink1Description: Manufacturer; Capacitance: 680uF
footprint WCAP-ATG8_D10H20
pins: 1 P, 2 N

## 860010578016
designator C?, comment 820uF, 35V
WCAP-ATG8 Aluminum Electrolytic Capacitor, Radial, THT, D13xH20, 820uF, 35V; Manufacturer Part Number: 860010578016; Manufacturer: Wurth Elektronik; Ripple Current: 1045mA; Rated Voltage: 35VDC; Technical Reference: ATBI200821M035DSPACB000; Leakage Current: 287uA; Endurance: 2000h; Dissipation Factor: 12%; Capacitance Tolerance: +/-20%; ComponentLink2Description: Datasheet; Published Date: October 2020; Packaging: Ammo Pack; Operating Temperature: -40 to +85degC; Mounting Technology: THT; Height: 20mm; Diameter: 13mm; ComponentLink2URL: https://www.we-online.com/catalog/datasheet/860010578016.pdf; ComponentLink1URL: http://www.we-online.de; ComponentLink1Description: Manufacturer; Capacitance: 820uF
footprint WCAP-ATG8_D13H20
pins: 1 P, 2 N

## 860010578017
designator C?, comment 1000uF, 35V
WCAP-ATG8 Aluminum Electrolytic Capacitor, Radial, THT, D13xH20, 1000uF, 35V; Manufacturer Part Number: 860010578017; Manufacturer: Wurth Elektronik; Ripple Current: 1265mA; Rated Voltage: 35VDC; Technical Reference: ATBI200102M035DSPACB000; Leakage Current: 350uA; Endurance: 2000h; Dissipation Factor: 12%; Capacitance Tolerance: +/-20%; ComponentLink2Description: Datasheet; Published Date: October 2020; Packaging: Ammo Pack; Operating Temperature: -40 to +85degC; Mounting Technology: THT; Height: 20mm; Diameter: 13mm; ComponentLink2URL: https://www.we-online.com/catalog/datasheet/860010578017.pdf; ComponentLink1URL: http://www.we-online.de; ComponentLink1Description: Manufacturer; Capacitance: 1000uF
footprint WCAP-ATG8_D13H20
pins: 1 P, 2 N

## 860010578018
designator C?, comment 1200uF, 35V
WCAP-ATG8 Aluminum Electrolytic Capacitor, Radial, THT, D13xH20, 1200uF, 35V; Manufacturer Part Number: 860010578018; Manufacturer: Wurth Elektronik; Ripple Current: 1375mA; Rated Voltage: 35VDC; Technical Reference: ATBI200122M035DSPACB000; Leakage Current: 420uA; Endurance: 2000h; Dissipation Factor: 12%; Capacitance Tolerance: +/-20%; ComponentLink2Description: Datasheet; Published Date: October 2020; Packaging: Ammo Pack; Operating Temperature: -40 to +85degC; Mounting Technology: THT; Height: 20mm; Diameter: 13mm; ComponentLink2URL: https://www.we-online.com/catalog/datasheet/860010578018.pdf; ComponentLink1URL: http://www.we-online.de; ComponentLink1Description: Manufacturer; Capacitance: 1200uF
footprint WCAP-ATG8_D13H20
pins: 1 P, 2 N

## 860010578019
designator C?, comment 1500uF, 35V
WCAP-ATG8 Aluminum Electrolytic Capacitor, Radial, THT, D13xH25, 1500uF, 35V; Manufacturer Part Number: 860010578019; Manufacturer: Wurth Elektronik; Ripple Current: 1570mA; Rated Voltage: 35VDC; Technical Reference: ATBI250152M035DSPACB000; Leakage Current: 525uA; Endurance: 2000h; Dissipation Factor: 12%; Capacitance Tolerance: +/-20%; ComponentLink2Description: Datasheet; Published Date: October 2020; Packaging: Ammo Pack; Operating Temperature: -40 to +85degC; Mounting Technology: THT; Height: 25mm; Diameter: 13mm; ComponentLink2URL: https://www.we-online.com/catalog/datasheet/860010578019.pdf; ComponentLink1URL: http://www.we-online.de; ComponentLink1Description: Manufacturer; Capacitance: 1500uF
footprint WCAP-ATG8_D13H25
pins: 1 P, 2 N

## 860010580020
designator C?, comment 1800uF, 35V
WCAP-ATG8 Aluminum Electrolytic Capacitor, Radial, THT, D16xH25, 1800uF, 35V; Manufacturer Part Number: 860010580020; Manufacturer: Wurth Elektronik; Ripple Current: 1749mA; Rated Voltage: 35VDC; Technical Reference: ATBK250182M035DSPAEB000; Leakage Current: 630uA; Endurance: 2000h; Dissipation Factor: 12%; Capacitance Tolerance: +/-20%; ComponentLink2Description: Datasheet; Published Date: October 2020; Packaging: Ammo Pack; Operating Temperature: -40 to +85degC; Mounting Technology: THT; Height: 25mm; Diameter: 16mm; ComponentLink2URL: https://www.we-online.com/catalog/datasheet/860010580020.pdf; ComponentLink1URL: http://www.we-online.de; ComponentLink1Description: Manufacturer; Capacitance: 1800uF
footprint WCAP-ATG8_D16H25
pins: 1 P, 2 N

## 860010580021
designator C?, comment 2200uF, 35V
WCAP-ATG8 Aluminum Electrolytic Capacitor, Radial, THT, D16xH25, 2200uF, 35V; Manufacturer Part Number: 860010580021; Manufacturer: Wurth Elektronik; Ripple Current: 1870mA; Rated Voltage: 35VDC; Technical Reference: ATBK250222M035DSPAEB000; Leakage Current: 770uA; Endurance: 2000h; Dissipation Factor: 12%; Capacitance Tolerance: +/-20%; ComponentLink2Description: Datasheet; Published Date: October 2020; Packaging: Ammo Pack; Operating Temperature: -40 to +85degC; Mounting Technology: THT; Height: 25mm; Diameter: 16mm; ComponentLink2URL: https://www.we-online.com/catalog/datasheet/860010580021.pdf; ComponentLink1URL: http://www.we-online.de; ComponentLink1Description: Manufacturer; Capacitance: 2200uF
footprint WCAP-ATG8_D16H25
pins: 1 P, 2 N

## 860010580022
designator C?, comment 2700uF, 35V
WCAP-ATG8 Aluminum Electrolytic Capacitor, Radial, THT, D16xH31.5, 2700uF, 35V; Manufacturer Part Number: 860010580022; Manufacturer: Wurth Elektronik; Ripple Current: 2178mA; Rated Voltage: 35VDC; Technical Reference: ATBK315272M035DSPADB000; Leakage Current: 945uA; Endurance: 2000h; Dissipation Factor: 12%; Capacitance Tolerance: +/-20%; ComponentLink2Description: Datasheet; Published Date: October 2020; Packaging: Ammo Pack; Operating Temperature: -40 to +85degC; Mounting Technology: THT; Height: 31.5mm; Diameter: 16mm; ComponentLink2URL: https://www.we-online.com/catalog/datasheet/860010580022.pdf; ComponentLink1URL: http://www.we-online.de; ComponentLink1Description: Manufacturer; Capacitance: 2700uF
footprint WCAP-ATG8_D16H31.5
pins: 1 P, 2 N

## 860010580023
designator C?, comment 3300uF, 35V
WCAP-ATG8 Aluminum Electrolytic Capacitor, Radial, THT, D16xH31.5, 3300uF, 35V; Manufacturer Part Number: 860010580023; Manufacturer: Wurth Elektronik; Ripple Current: 2365mA; Rated Voltage: 35VDC; Technical Reference: ATBK315332M035DSPADB000; Leakage Current: 1155uA; Endurance: 2000h; Dissipation Factor: 12%; Capacitance Tolerance: +/-20%; ComponentLink2Description: Datasheet; Published Date: October 2020; Packaging: Ammo Pack; Operating Temperature: -40 to +85degC; Mounting Technology: THT; Height: 31.5mm; Diameter: 16mm; ComponentLink2URL: https://www.we-online.com/catalog/datasheet/860010580023.pdf; ComponentLink1URL: http://www.we-online.de; ComponentLink1Description: Manufacturer; Capacitance: 3300uF
footprint WCAP-ATG8_D16H31.5
pins: 1 P, 2 N

## 860010581024
designator C?, comment 3900uF, 35V
WCAP-ATG8 Aluminum Electrolytic Capacitor, Radial, THT, D18xH31.5, 3900uF, 35V; Manufacturer Part Number: 860010581024; Manufacturer: Wurth Elektronik; Ripple Current: 2640mA; Rated Voltage: 35VDC; Technical Reference: ATBL315392M035DSPAEB000; Leakage Current: 1365uA; Endurance: 2000h; Dissipation Factor: 12%; Capacitance Tolerance: +/-20%; ComponentLink2Description: Datasheet; Published Date: October 2020; Packaging: Ammo Pack; Operating Temperature: -40 to +85degC; Mounting Technology: THT; Height: 31.5mm; Diameter: 18mm; ComponentLink2URL: https://www.we-online.com/catalog/datasheet/860010581024.pdf; ComponentLink1URL: http://www.we-online.de; ComponentLink1Description: Manufacturer; Capacitance: 3900uF
footprint WCAP-ATG8_D18H31.5
pins: 1 P, 2 N

## 860010581025
designator C?, comment 4700uF, 35V
WCAP-ATG8 Aluminum Electrolytic Capacitor, Radial, THT, D18xH35.5, 4700uF, 35V; Manufacturer Part Number: 860010581025; Manufacturer: Wurth Elektronik; Ripple Current: 2860mA; Rated Voltage: 35VDC; Technical Reference: ATBL355472M035DSPAEB000; Leakage Current: 1645uA; Endurance: 2000h; Dissipation Factor: 12%; Capacitance Tolerance: +/-20%; ComponentLink2Description: Datasheet; Published Date: October 2020; Packaging: Ammo Pack; Operating Temperature: -40 to +85degC; Mounting Technology: THT; Height: 35.5mm; Diameter: 18mm; ComponentLink2URL: https://www.we-online.com/catalog/datasheet/860010581025.pdf; ComponentLink1URL: http://www.we-online.de; ComponentLink1Description: Manufacturer; Capacitance: 4700uF
footprint WCAP-ATG8_D18H35.5
pins: 1 P, 2 N

## 860010581026
designator C?, comment 5600uF, 35V
WCAP-ATG8 Aluminum Electrolytic Capacitor, Radial, THT, D18xH41, 5600uF, 35V; Manufacturer Part Number: 860010581026; Manufacturer: Wurth Elektronik; Ripple Current: 2915mA; Rated Voltage: 35VDC; Technical Reference: ATBL410562M035DSPS1B000; Leakage Current: 1960uA; Endurance: 2000h; Dissipation Factor: 12%; Capacitance Tolerance: +/-20%; ComponentLink2Description: Datasheet; Published Date: October 2020; Packaging: Ammo Pack; Operating Temperature: -40 to +85degC; Mounting Technology: THT; Height: 41mm; Diameter: 18mm; ComponentLink2URL: https://www.we-online.com/catalog/datasheet/860010581026.pdf; ComponentLink1URL: http://www.we-online.de; ComponentLink1Description: Manufacturer; Capacitance: 5600uF
footprint WCAP-ATG8_D18H41
pins: 1 P, 2 N

## 860010583027
designator C?, comment 6800uF, 35V
WCAP-ATG8 Aluminum Electrolytic Capacitor, Radial, THT, D22xH41, 6800uF, 35V; Manufacturer Part Number: 860010583027; Manufacturer: Wurth Elektronik; Ripple Current: 3630mA; Rated Voltage: 35VDC; Technical Reference: ATBN410682M035DSPS2B000; Leakage Current: 2380uA; Endurance: 2000h; Dissipation Factor: 12%; Capacitance Tolerance: +/-20%; ComponentLink2Description: Datasheet; Published Date: October 2020; Packaging: Ammo Pack; Operating Temperature: -40 to +85degC; Mounting Technology: THT; Height: 41mm; Diameter: 22mm; ComponentLink2URL: https://www.we-online.com/catalog/datasheet/860010583027.pdf; ComponentLink1URL: http://www.we-online.de; ComponentLink1Description: Manufacturer; Capacitance: 6800uF
footprint WCAP-ATG8_D22H41
pins: 1 P, 2 N

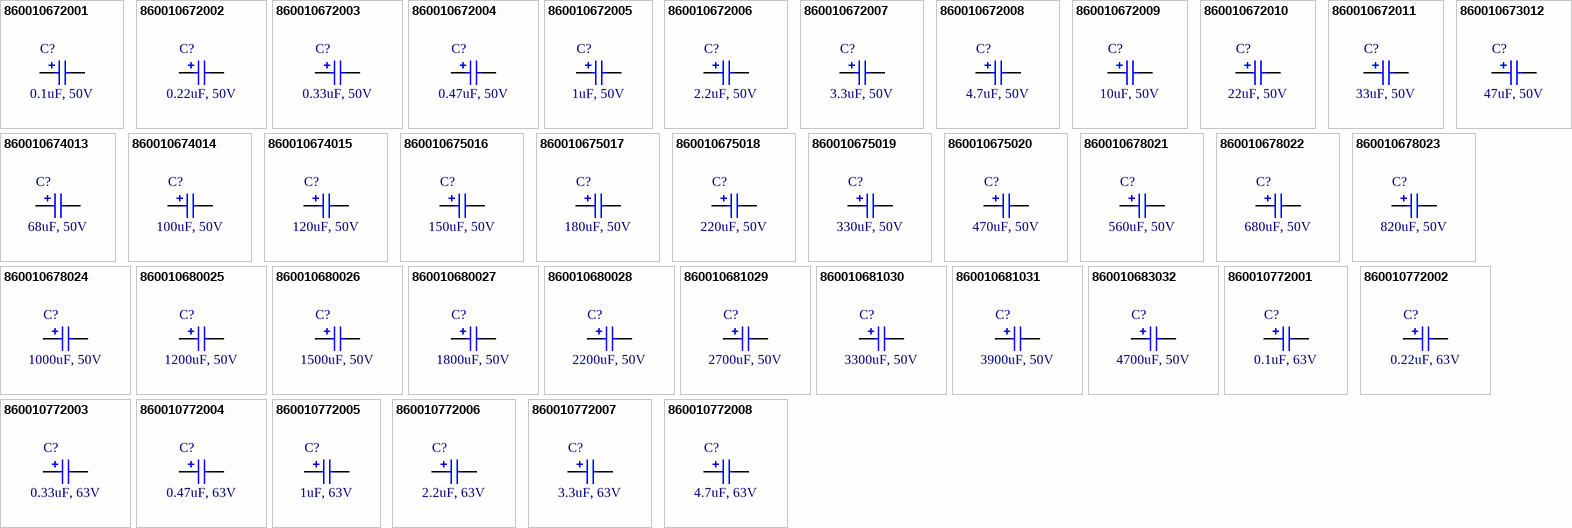
[diagram p3: symbols 860010672001 to 860010772008]

## 860010672001
designator C?, comment 0.1uF, 50V
WCAP-ATG8 Aluminum Electrolytic Capacitor, Radial, THT, D5xH11, 0.1uF, 50V; Manufacturer Part Number: 860010672001; Manufacturer: Wurth Elektronik; Ripple Current: 3.3mA; Rated Voltage: 50VDC; Technical Reference: ATBC110R10M050DSPA3B000; Leakage Current: 3uA; Endurance: 2000h; Dissipation Factor: 10%; Capacitance Tolerance: +/-20%; ComponentLink2Description: Datasheet; Published Date: October 2020; Packaging: Ammo Pack; Operating Temperature: -40 to +85degC; Mounting Technology: THT; Height: 11mm; Diameter: 5mm; ComponentLink2URL: https://www.we-online.com/catalog/datasheet/860010672001.pdf; ComponentLink1URL: http://www.we-online.de; ComponentLink1Description: Manufacturer; Capacitance: 0.1uF
footprint WCAP-ATG8_D5H11
pins: 1 P, 2 N

## 860010672002
designator C?, comment 0.22uF, 50V
WCAP-ATG8 Aluminum Electrolytic Capacitor, Radial, THT, D5xH11, 0.22uF, 50V; Manufacturer Part Number: 860010672002; Manufacturer: Wurth Elektronik; Ripple Current: 3.3mA; Rated Voltage: 50VDC; Technical Reference: ATBC110R22M050DSPA3B000; Leakage Current: 3uA; Endurance: 2000h; Dissipation Factor: 10%; Capacitance Tolerance: +/-20%; ComponentLink2Description: Datasheet; Published Date: October 2020; Packaging: Ammo Pack; Operating Temperature: -40 to +85degC; Mounting Technology: THT; Height: 11mm; Diameter: 5mm; ComponentLink2URL: https://www.we-online.com/catalog/datasheet/860010672002.pdf; ComponentLink1URL: http://www.we-online.de; ComponentLink1Description: Manufacturer; Capacitance: 0.22uF
footprint WCAP-ATG8_D5H11
pins: 1 P, 2 N

## 860010672003
designator C?, comment 0.33uF, 50V
WCAP-ATG8 Aluminum Electrolytic Capacitor, Radial, THT, D5xH11, 0.33uF, 50V; Manufacturer Part Number: 860010672003; Manufacturer: Wurth Elektronik; Ripple Current: 5.5mA; Rated Voltage: 50VDC; Technical Reference: ATBC110R33M050DSPA3B000; Leakage Current: 3uA; Endurance: 2000h; Dissipation Factor: 10%; Capacitance Tolerance: +/-20%; ComponentLink2Description: Datasheet; Published Date: October 2020; Packaging: Ammo Pack; Operating Temperature: -40 to +85degC; Mounting Technology: THT; Height: 11mm; Diameter: 5mm; ComponentLink2URL: https://www.we-online.com/catalog/datasheet/860010672003.pdf; ComponentLink1URL: http://www.we-online.de; ComponentLink1Description: Manufacturer; Capacitance: 0.33uF
footprint WCAP-ATG8_D5H11
pins: 1 P, 2 N